# Altium footprint library PcbLib1.PcbLib: 1 footprints
Each footprint in its own frame and in the unit in brackets; x right, y up, seen from the top. Pads: shape width x height; smd on the part's side, far side on the other; paste and mask are expansions set on the pad; w line width, h text height; cw(c..) or ccw(c..) is an arc to the next point about the centre after c.
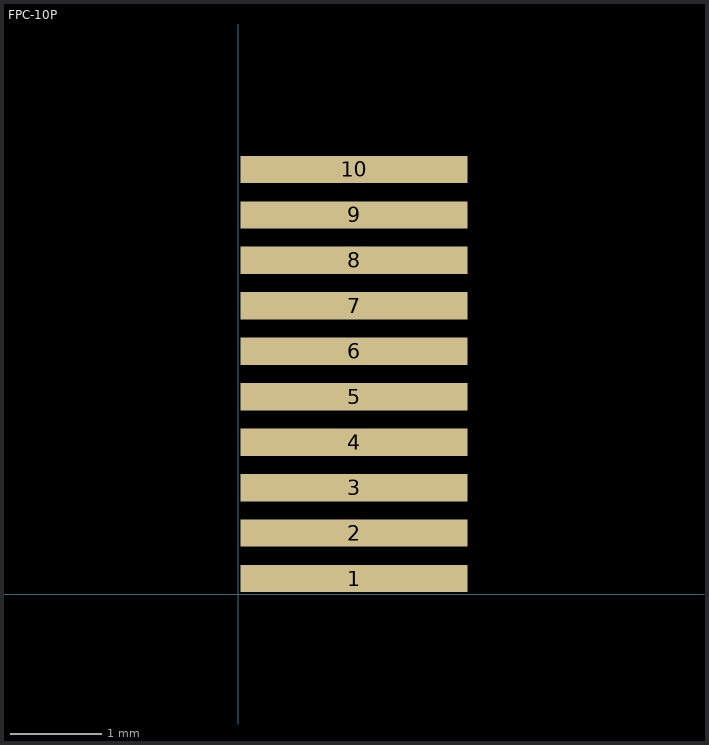
[diagram p0: the footprint, top view; thin cyan lines are the x and y axes]

## FPC-10P [mm]
pads (10):
  rect 2.5x0.3 smd mask+0.05: 1(1.275,0.175) 2(1.275,0.675) 3(1.275,1.175) 4(1.275,1.675) 5(1.275,2.175) 6(1.275,2.675) 7(1.275,3.175) 8(1.275,3.675) 9(1.275,4.175) 10(1.275,4.675)